# Altium schematic symbol library Ties_Jumpers.SchLib: 4 symbols
Pins are listed as number, name and electrical type; pins without a type are passive.

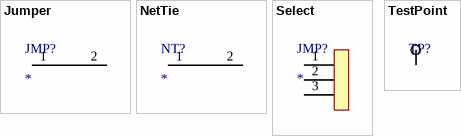
[diagram p0: symbols Jumper to TestPoint]

## Jumper
designator JMP?  (net tie, no BOM)
footprint Jumper
pins: 1, 2

## NetTie
designator NT?  (net tie, no BOM)
footprint NetTie
pins: 1, 2

## Select
designator JMP?  (net tie, no BOM)
footprint Select
pins: 1, 2, 3

## TestPoint
designator TP?  (no BOM)
footprint TESTPOINT
pins: 1 41